# Altium footprint library PcbLib1.PcbLib: 7 footprints
Each footprint in its own frame and in the unit in brackets; x right, y up, seen from the top. Pads: shape width x height; smd on the part's side, far side on the other; paste and mask are expansions set on the pad; w line width, h text height; cw(c..) or ccw(c..) is an arc to the next point about the centre after c.
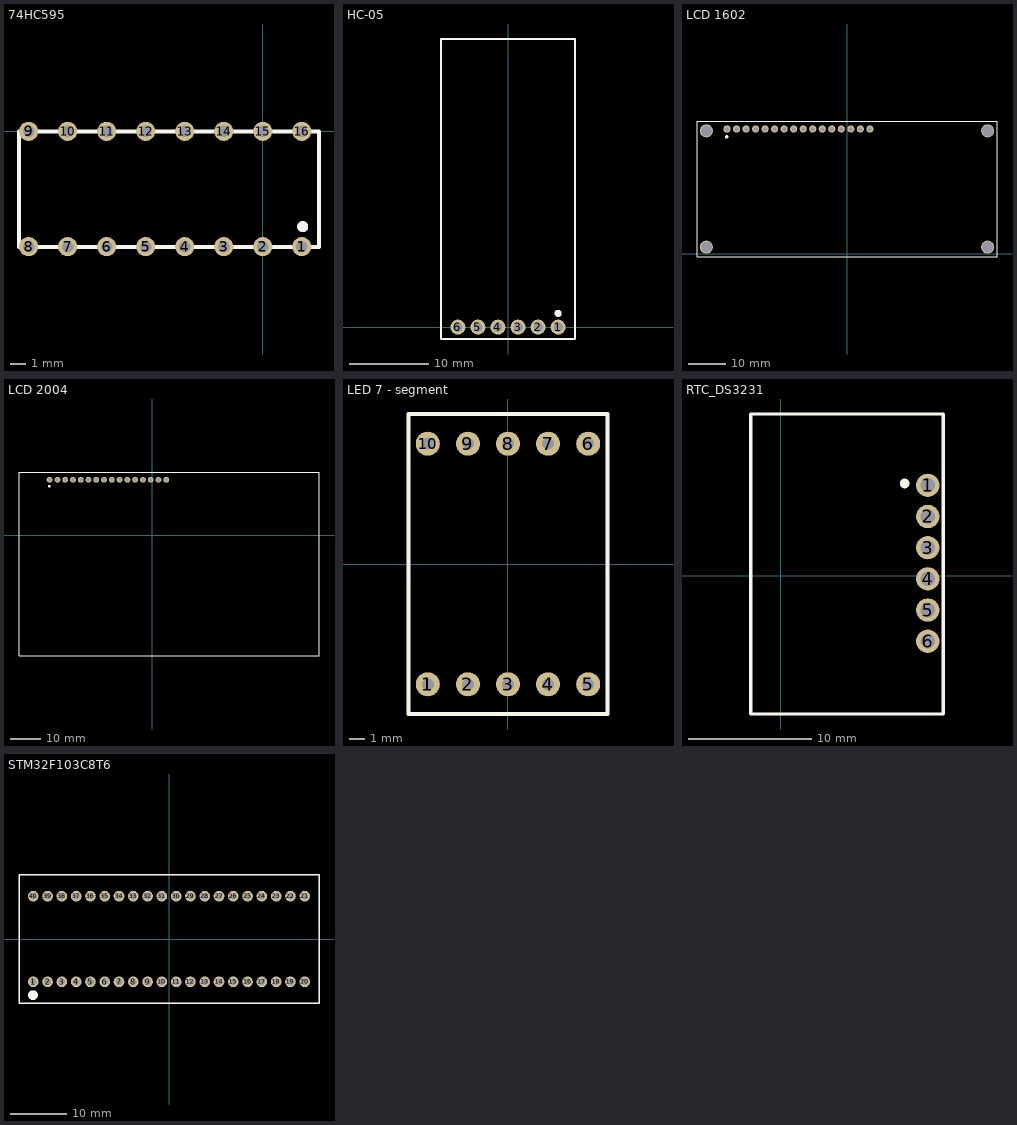
[diagram p0: the footprints below, top view; thin cyan lines are the x and y axes]

## 74HC595 [mm] "OC PWM CLOCK"
pads (16):
  round 1.25 hole 0.75: 1(2.54,-7.5) 2(0,-7.5) 3(-2.54,-7.5) 4(-5.08,-7.5) 5(-7.62,-7.5) 6(-10.16,-7.5) 7(-12.7,-7.5) 8(-15.24,-7.5) 9(-15.24,0) 10(-12.7,0) 11(-10.16,0) 12(-7.62,0) 13(-5.08,0) 14(-2.54,0) 15(0,0) 16(2.54,0)
Top Overlay:
  circle w0.5: c2.6,-6.2 r0.11
  lines w0.254: -15.86,-7.52 -15.86,0 -6.564,0 3.66,0 3.66,-7.52 -15.86,-7.52
3D body "74hc595.stp": height 3.5, standoff -2.1, extent -15.68,-7.45 3.32,0.05

## HC-05 [mm] "module"
pads (7):
  round 1.9 hole 1.2: 1(6.35,0) 2(3.81,0) 3(1.27,0) 4(-1.27,0) 5(-3.81,0) 6(-6.35,0) ""(-1.27,0)
Top Overlay:
  circle w0.5: c6.35,1.753 r0.2
  lines w0.254: -8.5,-1.5 -8.5,36.5 8.5,36.5 8.5,-1.5 0,-1.5 -8.5,-1.5
3D body "HC-SERIES.stp": height 6.31, standoff -5.12, extent -7.851,-1.295 7.849,36.305

## LCD 1602 [mm]
pads (21):
  round 1.9 hole 1.2: 1(-32,33.25) 2(-29.46,33.25) 3(-26.92,33.25) 4(-24.38,33.25) 5(-21.84,33.25) 6(-19.3,33.25) 7(-16.76,33.25) 8(-14.22,33.25) 9(-11.68,33.25) 10(-9.14,33.25) 11(-6.6,33.25) 12(-4.06,33.25) 13(-1.52,33.25) 14(1.02,33.25) 15(3.56,33.25) 16(6.1,33.25)
  round 3.5 hole 3: ""(-37.5,1.75) ""(-37.5,1.75) ""(-37.5,32.75) ""(37.5,1.75) ""(37.5,32.75)
Top Overlay:
  circle w0.5: c-32.1,31.15 r0.2
  lines w0.254: -40,-0.75 40,-0.75 40,35.25 -40,35.25 -40,-0.75
3D body "LCD-16X2.step": height 5.5, standoff -11.4, extent -40,-0.75 40,35.05

## LCD 2004 [mm]
pads (16):
  round 1.9 hole 1.2: 1(-33.49,18.1) 2(-30.95,18.1) 3(-28.41,18.1) 4(-25.87,18.1) 5(-23.33,18.1) 6(-20.79,18.1) 7(-18.25,18.1) 8(-15.71,18.1) 9(-13.17,18.1) 10(-10.63,18.1) 11(-8.09,18.1) 12(-5.55,18.1) 13(-3.01,18.1) 14(-0.47,18.1) 15(2.07,18.1) 16(4.61,18.1)
Top Overlay:
  circle w0.5: c-33.59,16 r0.2
  lines w0.254: -43.49,-39.4 -43.49,20.6 54.51,20.6 54.51,-39.4 -43.49,-39.4
3D body "LCD Display 2004.stp": height 11.24, standoff -2.41, extent -43.525,-39.344 54.545,20.6

## LED 7 - segment [mil]
pads (11):
  round 60 hole 30: 1(-200,-300) 1(-200,-300) 2(-100,-300) 3(0,-300) 4(100,-300) 5(200,-300) 6(200,300) 7(100,300) 8(0,300) 9(-100,300) 10(-200,300)
Top Overlay:
  lines w10: -248.03,-374.02 248.03,-374.02 248.03,374.02 -248.03,374.02 -248.03,-374.02

## RTC_DS3231 [mm] "I2C module"
pads (6):
  round 1.9 hole 1.2: 1(11.98,7.35) 2(11.98,4.81) 3(11.98,2.27) 4(11.98,-0.27) 5(11.98,-2.81) 6(11.98,-5.35)
Top Overlay:
  circle w0.5: c10.1,7.5 r0.141
  lines w0.254: -2.44,-11.28 -2.44,13.16 13.25,13.16 13.25,-11.28 -2.44,-11.28
3D body "DS3231 RTC.step": height 2.45, standoff -42.3, extent -1.3,-10.3 12.23,12.5

## STM32F103C8T6 [mm]
pads (40):
  round 1.9 hole 1.2 mask+0.102: 1(-24.13,-7.62) 2(-21.59,-7.62) 3(-19.05,-7.62) 4(-16.51,-7.62) 5(-13.97,-7.62) 6(-11.43,-7.62) 7(-8.89,-7.62) 8(-6.35,-7.62) 9(-3.81,-7.62) 10(-1.27,-7.62) 11(1.27,-7.62) 12(3.81,-7.62) 13(6.35,-7.62) 14(8.89,-7.62) 15(11.43,-7.62) 16(13.97,-7.62) 17(16.51,-7.62) 18(19.05,-7.62) 19(21.59,-7.62) 20(24.13,-7.62) 21(24.13,7.62) 22(21.59,7.62) 23(19.05,7.62) 24(16.51,7.62) 25(13.97,7.62) 26(11.43,7.62) 27(8.89,7.62) 28(6.35,7.62) 29(3.81,7.62) 30(1.27,7.62) 31(-1.27,7.62) 32(-3.81,7.62) 33(-6.35,7.62) 34(-8.89,7.62) 35(-11.43,7.62) 36(-13.97,7.62) 37(-16.51,7.62) 38(-19.05,7.62) 39(-21.59,7.62) 40(-24.13,7.62)
Top Overlay:
  circle w1: c-24.181,-9.982 r0.365
  lines w0.254: -26.67,-11.43 -26.67,11.43 0,11.43 26.67,11.43 26.67,-11.43 -26.67,-11.43
3D body "STM32F103C8T6_Blue_Pill_v6.step": height 12.31, standoff -5.96, extent -30.025,-11.354 27.535,11.506